# EAGLE library part SWITCH9X4 (library ESR_NM8032)
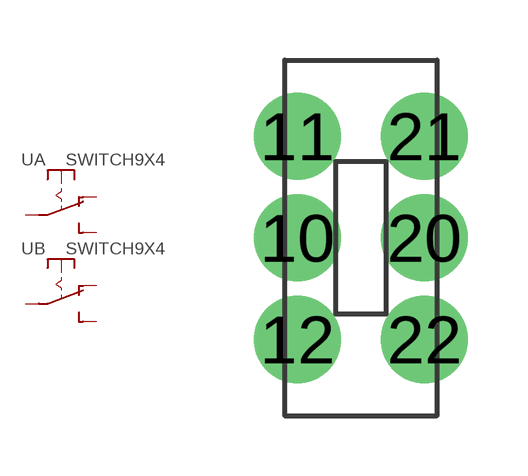
[diagram p3: symbol with the pads of SWITCH9X4; footprint SWITCH9X4]

Designator prefix -; gates A=DS B=DS

## SWITCH9X4  [SWITCH9X4]
10  A:P  pas
11  A:O  pas
12  A:S  pas
20  B:P  pas
21  B:O  pas
22  B:S  pas

## Footprint SWITCH9X4 (pad centres in mm)
drill 0.8 pad 2.184: 10 -1.587,0; 11 -1.587,2.54; 12 -1.587,-2.54; 20 1.587,0; 21 1.587,2.54; 22 1.587,-2.54